# Altium schematic symbol library BatteryCharger.SchLib: 2 symbols
Pins are listed as number, name and electrical type; pins without a type are passive.

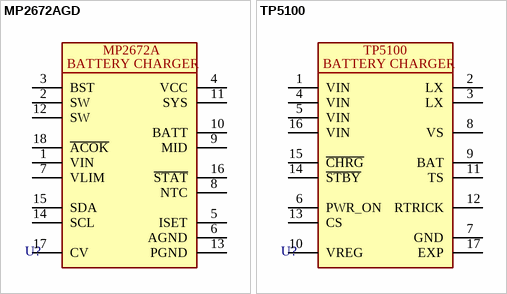
[diagram p0: symbols MP2672AGD to TP5100]

## MP2672AGD
designator U?
2-CELL 2A BOOST CHARGER WITH NVD; Manufacturer 1: Monolithic Power Systems Inc.; Value: *; Manufacturer Part Number 1: *
footprint MP2672AGD
pins: 1 VIN, 2 SW, 3 BST, 4 VCC, 5 ISET, 6 AGND, 7 VLIM, 8 NTC, 9 MID, 10 BATT, 11 SYS, 12 SW, 13 PGND, 14 SCL, 15 SDA, 16 ~{STAT}, 17 CV, 18 ~{ACOK}
text: MP2672A; BATTERY CHARGER

## TP5100
designator U?
Switching-buck type (double 8.4V / single 4.2V) lithium battery charging management chip; Manufacturer 1: Top Power; Manufacturer Part Number 1: TP5100; Value: *; Supplier 1: *; Supplier Part Number 1: *
footprint QFN65P400X400X90_HS-17M (QFN, 16-Leads, Body 4.00x4.00mm, Pitch 0.65mm, Thermal Pad 2.10x2.10mm, IPC Low Density)
pins: 1 VIN, 2 LX, 3 LX, 4 VIN, 5 VIN, 6 PWR_ON, 7 GND, 8 VS, 9 BAT, 10 VREG, 11 TS, 12 RTRICK, 13 CS, 14 ~{STBY}, 15 ~{CHRG}, 16 VIN, 17 EXP
text: BATTERY CHARGER